# Altium integrated library Amplificador monolitico.IntLib: 2 symbols
Pins are listed as number, name and electrical type; pins without a type are passive.

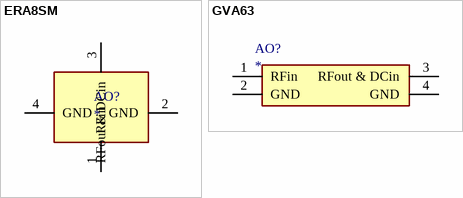
[diagram p0: symbols ERA8SM to GVA63]

## ERA8SM
designator AO?
datasheet SGA6586: https://pdf1.alldatasheet.es/datasheet-pdf/view/177224/SIRENZA/SGA-6586.html
footprint ERA8SM
pins: 1 RFin, 2 GND, 3 RFout & DCin, 4 GND

## GVA63
designator AO?
datasheet SXB4089: https://datasheetspdf.com/pdf-file/581949/SirenzaMicrodevices/SXB-4089/1
footprint GVA63
pins: 1 RFin, 2 GND, 3 RFout & DCin, 4 GND